# Altium schematic symbol library 7447709471.SchLib: 2 symbols
Pins are listed as number, name and electrical type; pins without a type are passive.

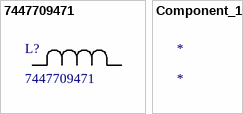
[diagram p0: symbols 7447709471 to Component_1]

## 7447709471
designator L?
No Description Available; Mfr_Name: Wurth Electronics; Type: DEV; Copyright: Copyright (C) 2023 Ultra Librarian. All rights reserved.; Manufacturer_Part_Number: 7447709471; Digi-Key_Part_Number_1: 732-1699-2-ND; Digi-Key_Part_Number_2: 732-1699-1-ND; Digi-Key_Part_Number_3: 732-1699-6-ND; Digi-Key_Part_Number_4: 732-1699-2-NDL; RefDes: RefDes
footprint IND_1210-WE-PD_WRE
pins: 1, 2

## Component_1
designator *